# EAGLE library part MICROSD_MOLEX_5031821852_SPI (library mestrado)
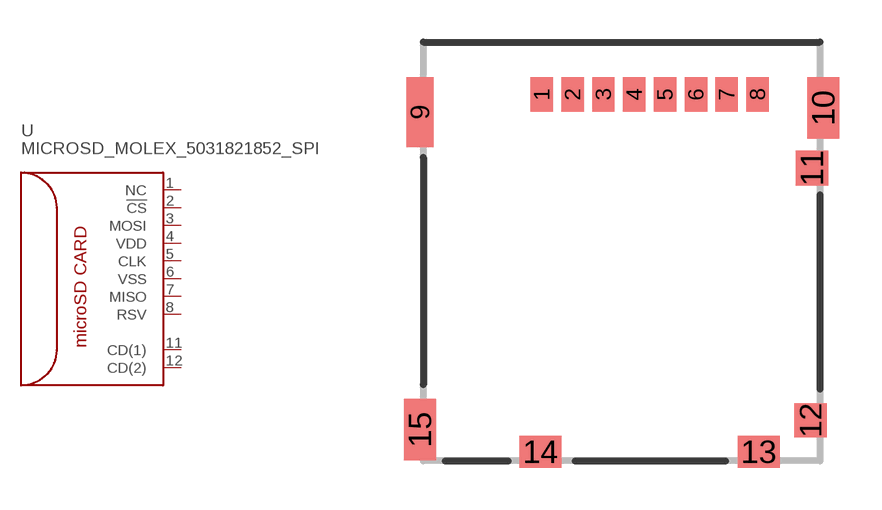
[diagram p11: symbol with the pads of 5031821852; footprint 5031821852]

Designator prefix U

## MICROSD_MOLEX_5031821852_SPI  [5031821852]
1  NC
2  !CS
3  MOSI
4  VDD
5  CLK
6  VSS
7  MISO
8  RSV
11  CD(1)
12  CD(2)

## Footprint 5031821852 (pad centres in mm)
5031821852
smd 0.8 x 1.24: 1 -2.85,0.63; 2 -1.75,0.63; 3 -0.65,0.63; 4 0.45,0.63; 5 1.55,0.63; 6 2.65,0.63; 7 3.75,0.63; 8 4.85,0.63
smd 0.95 x 2.5: 9 -7.195,0
smd 1.15 x 2.2: 10 7.195,0.15; 15 -7.195,-11.33
smd 1.16 x 1.25: 11 6.795,-2
smd 1.16 x 1.2: 12 6.74,-11
smd 1.5 x 1.15: 13 4.89,-12.125; 14 -2.89,-12.125